# EAGLE library part RFX2401C (library roach-fem)
None Check availability <https://pricing.snapeda.com/parts/RFX2401C/Skyworks%20Solutions/view-part?ref=eda>
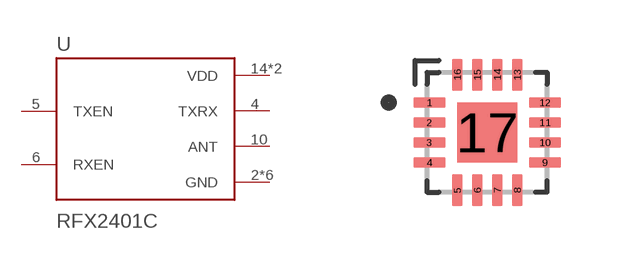
[diagram p0: symbol with the pads of QFN50P300X300X60-17N; footprint QFN50P300X300X60-17N]

Designator prefix U

## RFX2401C (AVAILABILITY: In Stock; DESCRIPTION: RF Front End 2.4GHz ~ 2.5GHz 802.15.4, Zigbee® 16-QFN (3x3); MF: Skyworks Solutions; MP: RFX2401C; PACKAGE: UFQFN-16 Skyworks Solutions; PRICE: None; PURCHASE-URL: https://pricing.snapeda.com/search/part/RFX2401C/?ref=eda)  [QFN50P300X300X60-17N]
2  GND  pwr
3  GND  pwr
4  TXRX
5  TXEN  in
6  RXEN  in
8  GND  pwr
9  GND  pwr
10  ANT  pas
11  GND  pwr
14  VDD  pwr
16  VDD  pwr
17  GND  pwr

## Footprint QFN50P300X300X60-17N (pad centres in mm)
smd 0.81 x 0.27: 1 -1.445,0.75; 2 -1.445,0.25; 3 -1.445,-0.25; 4 -1.445,-0.75; 9 1.445,-0.75; 10 1.445,-0.25; 11 1.445,0.25; 12 1.445,0.75
smd 0.27 x 0.81: 5 -0.75,-1.445; 6 -0.25,-1.445; 7 0.25,-1.445; 8 0.75,-1.445; 13 0.75,1.445; 14 0.25,1.445; 15 -0.25,1.445; 16 -0.75,1.445
smd 1.5 x 1.5: 17 0,0